# Altium footprint library tutorialLibrary.PcbLib: 4 footprints
Each footprint in its own frame and in the unit in brackets; x right, y up, seen from the top. Pads: shape width x height; smd on the part's side, far side on the other; paste and mask are expansions set on the pad; w line width, h text height; cw(c..) or ccw(c..) is an arc to the next point about the centre after c.
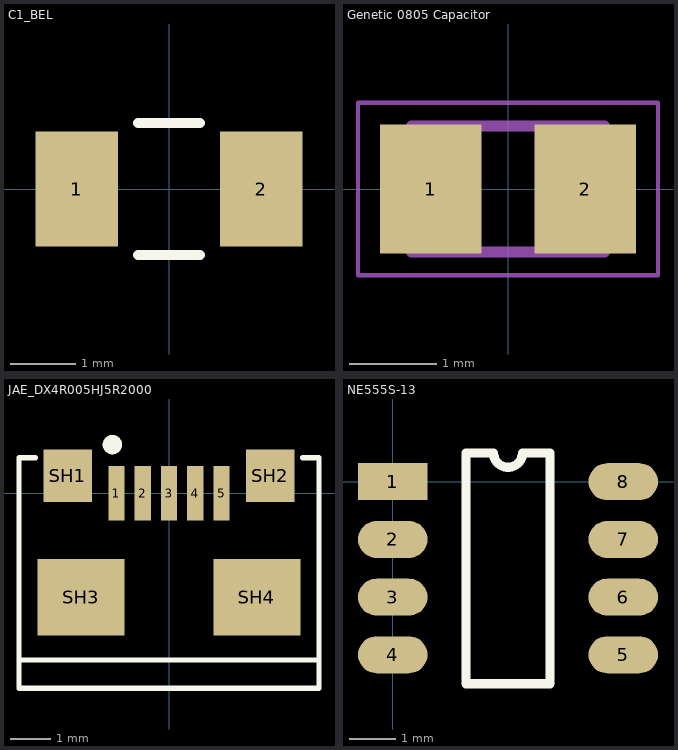
[diagram p0: the footprints below, top view; thin cyan lines are the x and y axes]

## C1_BEL [mil]
pads (2):
  rect 50x70 smd paste+0 mask+0: 1(-56,0) 2(56,0)
Top Overlay:
  lines w6: -18.89,-40 18.89,-40 ; -18.89,40 18.89,40

## Genetic 0805 Capacitor [mm]
pads (2):
  rect 1.16x1.47 smd: 1(-0.88,0) 2(0.88,0)
Mechanical 13:
  lines w0.127: -1.1,-0.72 -1.1,0.72 1.1,0.72 1.1,-0.72 -1.1,-0.72
Mechanical 15:
  lines w0.05: -1.713,-0.983 -1.713,0.983 1.713,0.983 1.713,-0.983 -1.713,-0.983

## JAE_DX4R005HJ5R2000 [mm]
pads (9):
  rect 0.4x1.35 smd: 1(-1.3,0) 2(-0.65,0) 3(0,0) 4(0.65,0) 5(1.3,0)
  rect 1.2x1.3 smd: SH1(-2.5,0.425) SH2(2.5,0.425)
  rect 2.15x1.9 smd: SH3(-2.175,-2.575) SH4(2.175,-2.575)
Top Overlay:
  circle w0.24: c-1.4,1.2 r0.12
  lines w0.127: -3.71,-4.825 3.71,-4.825 ; -3.71,-4.8 -3.71,-4.125 ; -3.3,0.875 -3.71,0.875 -3.71,-4.125 ; 3.3,0.875 3.71,0.875 3.71,-4.125 ; 3.71,-4.8 3.71,-4.125 ; -3.71,-4.125 3.71,-4.125

## NE555S-13 [mm]
pads (8):
  rect 1.505x0.802 smd: 1(0,0)
  oval 1.505x0.802 smd: 2(0,-1.25) 3(0,-2.5) 4(0,-3.75) 5(4.995,-3.75) 6(4.995,-2.5) 7(4.995,-1.25) 8(4.995,0)
Top Overlay:
  lines w0.2: 1.587,-4.375 3.407,-4.375 3.407,0.625 2.81,0.625 cw(c2.497,0.625) 2.185,0.625 1.587,0.625 1.587,-4.375